# EAGLE library part ARDUINO_UNO_R3_NO-HOLES_NO-AVR-ISP (library PiB_boards)
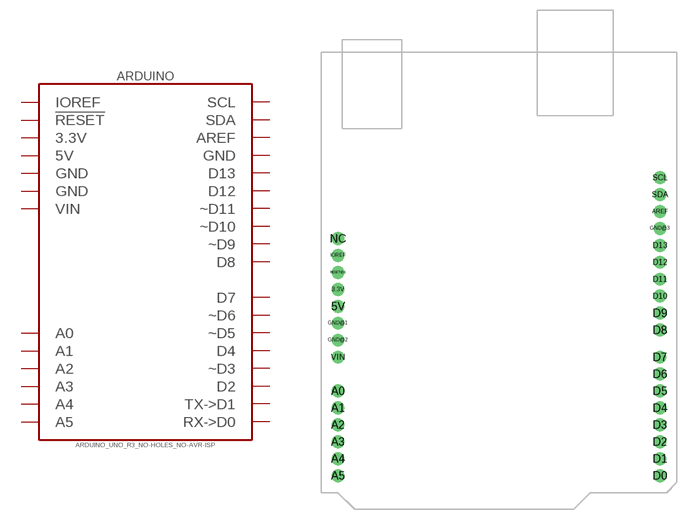
[diagram p1: symbol with the pads of ARDUINO_UNO_R3_NO-HOLES_NO-AVR-ISP; footprint ARDUINO_UNO_R3_NO-HOLES_NO-AVR-ISP]

Designator prefix ARDUINO

## ARDUINO_UNO_R3_NO-HOLES_NO-AVR-ISP (DATASHEET: https://media.digikey.com/pdf/Data%20Sheets/Arduino%20PDFs/A000066_Web.pdf; DATASHEET_CABLE: http://www.assmann-wsw.com/fileadmin/datasheets/ASS_7066_CA.pdf; DIST: Digikey; DISTLINK: https://www.digikey.com/products/en?keywords=1050-1024-ND; DISTLINK_CABLE: https://www.digikey.com/products/en?keywords=AE1462-ND; DISTPN: 1050-1024-ND; DISTPN_CABLE: AE1462-ND; DIST_CABLE: Digikey; MFR: Arduino; MFR_CABLE: Assmann WSW Components; MPN: A000066; MPN_CABLE: AK672/2-1; VALUE: Arduino UNO R3)  [ARDUINO_UNO_R3_NO-HOLES_NO-AVR-ISP]
3.3V  3.3V
5V  5V
A0  A0
A1  A1
A2  A2
A3  A3
A4  A4
A5  A5
AREF  AREF
D0  RX->D0
D1  TX->D1
D2  D2
D3  ~D3
D4  D4
D5  ~D5
D6  ~D6
D7  D7
D8  D8
D9  ~D9
D10  ~D10
D11  ~D11
D12  D12
D13  D13
GND@1  GND
GND@2  GND
GND@3  GND
IOREF  IOREF
RESET@1  !RESET
SCL  SCL
SDA  SDA
VIN  VIN

## Footprint ARDUINO_UNO_R3_NO-HOLES_NO-AVR-ISP (pad centres in mm)
drill 1.016 pad 1.93: 3.3V 2.54,30.48; 5V 2.54,27.94; A0 2.54,15.24; A1 2.54,12.7; A2 2.54,10.16; A3 2.54,7.62; A4 2.54,5.08; A5 2.54,2.54; AREF 50.8,42.164; D0 50.8,2.54; D1 50.8,5.08; D2 50.8,7.62; D3 50.8,10.16; D4 50.8,12.7; D5 50.8,15.24; D6 50.8,17.78; D7 50.8,20.32; D8 50.8,24.384; D9 50.8,26.924; D10 50.8,29.464; D11 50.8,32.004; D12 50.8,34.544; D13 50.8,37.084; GND@1 2.54,25.4; GND@2 2.54,22.86; GND@3 50.8,39.624; IOREF 2.54,35.56; NC 2.54,38.1; RESET@1 2.54,33.02; SCL 50.8,47.244; SDA 50.8,44.704; VIN 2.54,20.32